# EAGLE library part ESP8266_ESP-12 (library ESP8266-ESP12)
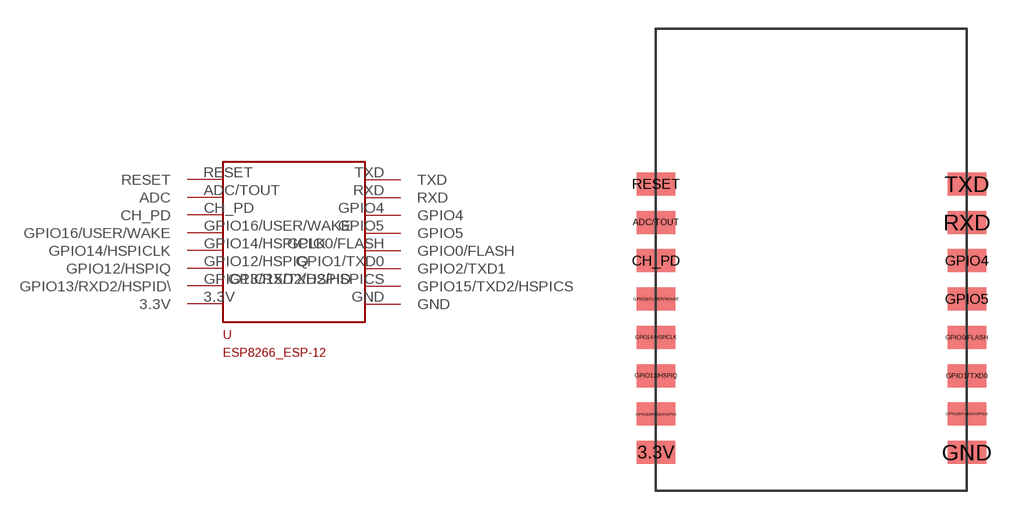
[diagram p0: symbol with the pads of ESP8266-ESP12; footprint ESP8266-ESP12]

Designator prefix -

## ESP8266_ESP-12  [ESP8266-ESP12]
3.3V  3.3V
ADC/TOUT  ADC
CH_PD  CH_PD
GND  GND
GPIO0/FLASH  GPIO0/FLASH
GPIO1/TXD0  GPIO2/TXD1
GPIO4  GPIO4
GPIO5  GPIO5
GPIO12/HSPIQ  GPIO12/HSPIQ
GPIO13/RXD2/HSPID  GPIO13/RXD2/HSPID\
GPIO14/HSPICLK  GPIO14/HSPICLK
GPIO15/TXD2/HSPICS  GPIO15/TXD2/HSPICS
GPIO16/USER/WAKE  GPIO16/USER/WAKE
RESET  RESET
RXD  RXD
TXD  TXD

## Footprint ESP8266-ESP12 (pad centres in mm)
smd 2 x 1.2: 3.3V 0,2; ADC/TOUT 0,14; CH_PD 0,12; GND 16.2,2; GPIO0/FLASH 16.2,8; GPIO1/TXD0 16.2,6; GPIO4 16.2,12; GPIO5 16.2,10; GPIO12/HSPIQ 0,6; GPIO13/RXD2/HSPID 0,4; GPIO14/HSPICLK 0,8; GPIO15/TXD2/HSPICS 16.2,4; GPIO16/USER/WAKE 0,10; RESET 0,16; RXD 16.2,14; TXD 16.2,16